# Altium footprint library 696108003002.PcbLib: 1 footprints
Each footprint in its own frame and in the unit in brackets; x right, y up, seen from the top. Pads: shape width x height; smd on the part's side, far side on the other; paste and mask are expansions set on the pad; w line width, h text height; cw(c..) or ccw(c..) is an arc to the next point about the centre after c.
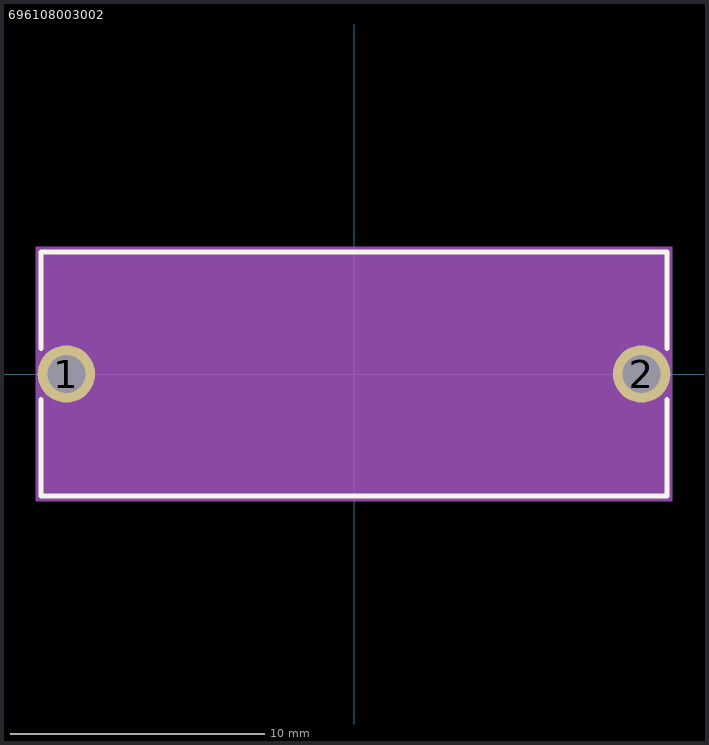
[diagram p0: the footprint, top view; thin cyan lines are the x and y axes]

## 696108003002 [mm]
pads (2):
  round 2.25 hole 1.5: 1(-11.3,0) 2(11.3,0)
Top Overlay:
  lines w0.2: -12.3,-1 -12.3,-4.8 12.3,-4.8 12.3,-1 ; -12.3,1 -12.3,4.8 12.3,4.8 12.3,1
Assembly Top:
  lines w0.1: -12.2,-4.7 12.2,-4.7 12.2,4.7 -12.2,4.7 -12.2,-4.7
Courtyard Top:
  region: 12.5,-5 -12.5,-5 -12.5,5 12.5,5
3D body "step_temp.STEP": height 9.4, standoff 0, extent -12.2,-22.2 12.2,5